# Altium footprint library ESP模块.PcbLib: 8 footprints
Each footprint in its own frame and in the unit in brackets; x right, y up, seen from the top. Pads: shape width x height; smd on the part's side, far side on the other; paste and mask are expansions set on the pad; w line width, h text height; cw(c..) or ccw(c..) is an arc to the next point about the centre after c.
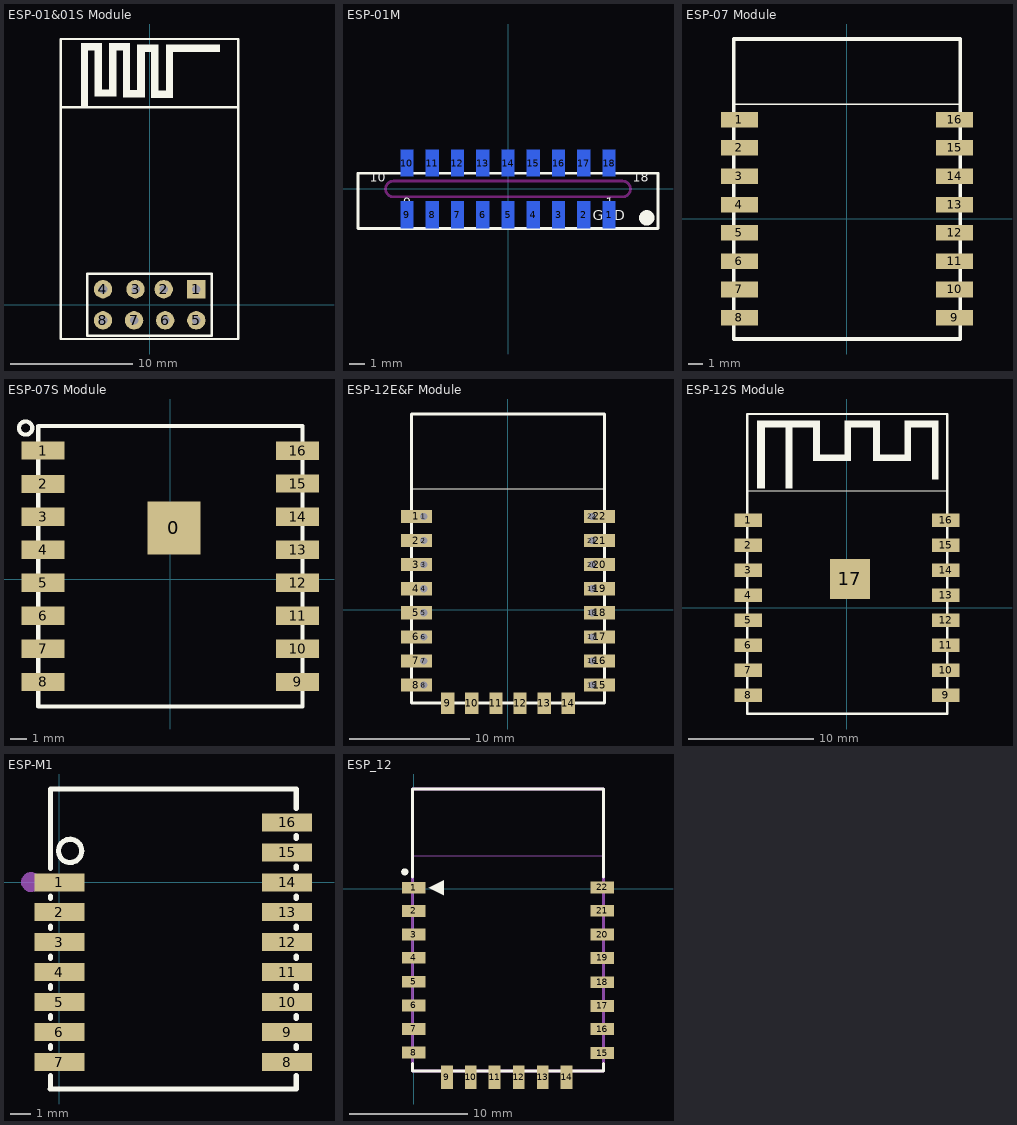
[diagram p0: the footprints below, top view; thin cyan lines are the x and y axes]

## ESP-01&01S Module [mm]
pads (8):
  rect 1.5x1.5 hole 0.7: 1(3.81,1.27)
  round 1.5 hole 0.7: 2(1.15,1.27) 3(-1.15,1.27) 4(-3.81,1.27) 5(3.81,-1.27) 6(1.27,-1.27) 7(-1.27,-1.27) 8(-3.81,-1.27)
Top Overlay:
  rectangle: 1.919,20.65 5.755,21.26
  rectangle: 1.335,17.501 1.919,21.26
  rectangle: 0.726,16.891 1.919,17.501
  rectangle: 0.116,16.891 0.726,20.65
  rectangle: -0.392,20.65 0.726,21.26
  rectangle: -1.027,17.526 -0.392,21.26
  rectangle: -1.586,16.942 -0.392,17.526
  rectangle: -2.17,16.942 -1.586,20.777
  rectangle: -2.703,20.777 -1.586,21.361
  rectangle: -3.313,17.602 -2.703,21.361
  rectangle: -3.897,17.018 -2.703,17.602
  rectangle: -4.507,17.018 -3.897,20.777
  rectangle: -5.015,20.777 -3.897,21.361
  rectangle: -5.599,16.129 -5.015,21.361
  lines w0.2: -7.25,16.129 7.25,16.129 ; -7.25,-2.794 -7.25,21.706 7.25,21.706 7.25,-2.794 -7.25,-2.794 ; -5.08,-2.54 5.08,-2.54 5.08,2.54 -5.08,2.54 -5.08,-2.54

## ESP-01M [mm]
pads (18):
  rect 0.8x1.7 smd far side: 1(6.4,-1.643) 2(4.8,-1.643) 3(3.2,-1.643) 4(1.6,-1.643) 5(0,-1.643) 6(-1.6,-1.643) 7(-3.2,-1.643) 8(-4.8,-1.643) 9(-6.4,-1.643) 10(-6.4,1.643) 11(-4.8,1.643) 12(-3.2,1.643) 13(-1.6,1.643) 14(0,1.643) 15(1.6,1.643) 16(3.2,1.643) 17(4.8,1.643) 18(6.4,1.643)
Top Overlay:
  circle w0.5: c8.788,-1.829 r0.234
  lines w0.178: -9.5,-2.5 9.5,-2.5 9.5,1 -9.5,1 -9.5,-2.5
  text "GND" at 5.359,-2.21 h1.1
  text "1" at 6.198,-1.346 h1
  text "9" at -6.629,-1.346 h1
  text "10" at -8.763,0.229 h1
  text "18" at 7.899,0.229 h1
Keep-Out Layer:
  lines w0.178: -7.75,-0.008 ccw(c-7.254,-0.004) -7.25,-0.5 7.25,-0.5 ccw(c7.254,-0.004) 7.75,-0.008 ; -7.75,0.008 cw(c-7.254,0.004) -7.25,0.5 7.25,0.5 cw(c7.254,0.004) 7.75,0.008

## ESP-07 Module [mm]
pads (16):
  rect 2.6x1.1 smd: 1(-7.6,7) 2(-7.6,5) 3(-7.6,3) 4(-7.6,1) 5(-7.6,-1) 6(-7.6,-3) 7(-7.6,-5) 8(-7.6,-7) 9(7.6,-7) 10(7.6,-5) 11(7.6,-3) 12(7.6,-1) 13(7.6,1) 14(7.6,3) 15(7.6,5) 16(7.6,7)
Top Overlay:
  lines w0.1: -8,8.1 8,8.1
  lines w0.254: -8,-8.5 -8,12.7 8,12.7 8,-8.5 -8,-8.5

## ESP-07S Module [mm]
pads (17):
  rect 3.2x3.2 smd: 0(0.22,3.092)
  rect 2.6x1.1 smd: 1(-7.7,7.775) 2(-7.7,5.762) 3(-7.7,3.775) 4(-7.7,1.775) 5(-7.7,-0.225) 6(-7.7,-2.225) 7(-7.7,-4.225) 8(-7.7,-6.225) 9(7.7,-6.225) 10(7.7,-4.225) 11(7.7,-2.225) 12(7.7,-0.225) 13(7.7,1.775) 14(7.7,3.775) 15(7.7,5.775) 16(7.7,7.769)
Top Overlay:
  circle w0.254: c-8.763,9.144 r0.402
  lines w0.254: -8,-7.725 -8,9.275 8,9.275 8,-7.725 -8,-7.725

## ESP-12E&F Module [mm]
pads (38):
  rect 2.6x1.1 smd: 1(-7.6,7.75) 2(-7.6,5.75) 3(-7.6,3.75) 4(-7.6,1.75) 5(-7.6,-0.25) 6(-7.6,-2.25) 7(-7.6,-4.25) 8(-7.6,-6.25) 15(7.6,-6.25) 16(7.6,-4.25) 17(7.6,-2.25) 18(7.6,-0.25) 19(7.6,1.75) 20(7.6,3.75) 21(7.6,5.75) 22(7.6,7.75)
  rect 0.762x1 hole 0.6: 1(-7,7.75) 7(-7,-4.25)
  rect 0.762x1 / inner rect 0.762x1 / far side rect 1x1 hole 0.6: 2(-7,5.75) 3(-7,3.75) 4(-7,1.75) 5(-7,-0.25) 6(-7,-2.25) 8(-7,-6.25) 15(7,-6.25) 16(7,-4.25) 17(7,-2.25) 18(7,-0.25) 19(7,1.75) 20(7,3.75) 21(7,5.75) 22(7,7.75)
  rect 1.1x1.8 smd: 9(-5,-7.75) 10(-3,-7.75) 11(-1,-7.75) 12(1,-7.75) 13(3,-7.75) 14(5,-7.75)
Top Overlay:
  lines w0.1: -8,10.05 8,10.05
  lines w0.254: -8,-7.75 -8,16.25 8,16.25 8,-7.75 -8,-7.75

## ESP-12S Module [mm]
pads (17):
  rect 2.2x1.1 smd: 1(-7.9,7) 2(-7.9,5) 3(-7.9,3) 4(-7.9,1) 5(-7.9,-1) 6(-7.9,-3) 7(-7.9,-5) 8(-7.9,-7) 9(7.9,-7) 10(7.9,-5) 11(7.9,-3) 12(7.9,-1) 13(7.9,1) 14(7.9,3) 15(7.9,5) 16(7.9,7)
  rect 3.2x3.2 smd: 17(0.22,2.321)
Top Overlay:
  region: -7.196,14.716 -7.196,9.563 -6.569,9.563 -6.569,14.716
  region: -7.196,14.463 -7.196,14.963 -2.196,14.963 -2.196,12.263 -0.196,12.263 -0.196,14.963 2.604,14.963 2.604,12.263 4.604,12.263 4.604,14.963 7.304,14.963 7.304,10.29 6.804,10.29 6.804,14.463 5.104,14.463 5.104,11.763 2.104,11.763 2.104,14.463 0.304,14.463 0.304,11.763 -2.696,11.763 -2.696,14.463 -4.396,14.463 -4.396,9.563 -4.896,9.563 -4.896,14.463
  lines w0.1: -8,9.354 8,9.354
  lines w0.2: -8,-8.496 -8,15.504 8,15.504 8,-8.496 -8,-8.496

## ESP-M1 [mm]
pads (16):
  rect 2.5x0.9 smd paste+0 mask+0.05: 1(0,0) 2(0,-1.5) 3(0,-3) 4(0,-4.5) 5(0,-6) 6(0,-7.5) 7(0,-9) 8(11.4,-9) 9(11.4,-7.5) 10(11.4,-6) 11(11.4,-4.5) 12(11.4,-3) 13(11.4,-1.5) 14(11.4,0) 15(11.4,1.5) 16(11.4,3)
Top Overlay:
  circle w0.254: c0.54,1.57 r0.582
  lines w0.254: -0.46,-10.35 11.86,-10.35 11.86,-9.681 ; -0.44,-10.33 -0.44,-9.681 ; -0.44,-8.319 -0.44,-8.181 ; -0.44,-6.819 -0.44,-6.681 ; -0.44,-5.319 -0.44,-5.181 ; -0.44,-3.819 -0.44,-3.681 ; -0.44,-2.319 -0.44,-2.181 ; -0.44,-0.819 -0.44,-0.681 ; -0.439,0.681 -0.439,4.669 11.86,4.669 11.86,3.683 ; 11.86,-8.319 11.86,-8.181 ; 11.86,-6.819 11.86,-6.681 ; 11.86,-5.319 11.86,-5.181 ; 11.86,-3.819 11.86,-3.681 ; 11.86,-2.319 11.86,-2.181 ; 11.86,-0.819 11.86,-0.681 ; 11.86,0.681 11.86,0.819 ; 11.86,2.189 11.86,2.327
Mechanical 15:
  circle w0.5: c-1.42,0.01 r0.25

## ESP_12 [mm]
height 10
pads (22):
  rect 2x1 smd: 1(0,0.074) 2(0,-1.896) 3(0,-3.896) 4(0,-5.866) 5(0,-7.906) 6(0,-9.916) 7(0,-11.906) 8(0,-13.916) 15(16,-13.956) 16(16,-11.916) 17(16,-9.956) 18(16,-7.936) 19(16,-5.876) 20(16,-3.896) 21(16,-1.876) 22(16,0.104)
  rect 1x2 smd: 9(2.814,-16.002) 10(4.846,-16.002) 11(6.858,-16.002) 12(8.91,-16.002) 13(10.942,-16.002) 14(12.974,-16.002)
Top Overlay:
  circle w0.3: c-0.762,1.43 r0.15
  region: 1.27,0.074 2.54,-0.561 2.54,0.709
  lines w0.254: -0.084,-14.842 -0.084,-15.494 16.084,-15.494 16.084,-14.842 ; -0.084,0.991 -0.084,8.445 16.084,8.445 16.084,0.991
Mechanical 13:
  lines w0.051: -0.127,2.802 16.129,2.802 16.129,8.456 -0.127,8.456 -0.127,2.802
  lines w0.254: -0.084,-15.494 -0.084,8.446 16.084,8.446 16.084,-15.494 -0.084,-15.494
3D body "EPS8266 ESP-12E.STEP": height 2.65, standoff -0.04, extent -0.004,-15.487 16.006,8.518